# Altium schematic symbol library 0603 390R.Schlib: 1 symbol
Pins are listed as number, name and electrical type; pins without a type are passive.

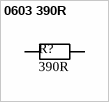
[diagram p0: symbol 0603 390R]

## 0603 390R
designator R?, comment value 390R  (hidden comment: Resistor)
±1% ±100ppm/℃ 0.1W 390Ω 0603 Chip Resistor - Surface Mount ROHS; LCSC Part #: C23151
footprint RES 0603_1608 (Chip Resistor, 2-Leads, Body 1.60x0.80mm, IPC Medium Density)
pins: 1, 2